# Altium schematic symbol library MOTOR.SCHLIB: 1 symbol
Pins are listed as number, name and electrical type; pins without a type are passive.

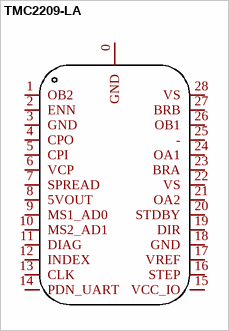
[diagram p0: symbol TMC2209-LA]

## TMC2209-LA
designator U??  (value not drawn)
Manufacturer: TRINAMIC; Add into BOM: yes; Name: TMC2209-LA; Symbol: TMC2209-LA; Device: TMC2209-LA; LCSC Part Name: TMC2209-LA; Supplier Part: C465949; Manufacturer Part: TMC2209-LA; Supplier Footprint: QFN-28; JLCPCB Part Class: Extended Part; Datasheet: https://atta.szlcsc.com/upload/public/pdf/source/20191203/C465949_E563A3313F5F3F9C62E6E946672F7886.pdf; Supplier: LCSC; Convert to PCB: yes
footprint QFN-28_L5.0-W5.0-P0.50-BL-EP
3D model TQFN-28_L5.0-W5.0-H0.8-P0.50
pins: 0 GND, 1 OB2, 2 ENN, 3 GND, 4 CPO, 5 CPI, 6 VCP, 7 SPREAD, 8 5VOUT, 9 MS1_AD0, 10 MS2_AD1, 11 DIAG, 12 INDEX, 13 CLK, 14 PDN_UART, 15 VCC_IO, 16 STEP, 17 VREF, 18 GND, 19 DIR, 20 STDBY, 21 OA2, 22 VS, 23 BRA, 24 OA1, 25 -, 26 OB1, 27 BRB, 28 VS